# Altium footprint library 1049.PcbLib: 1 footprints
Each footprint in its own frame and in the unit in brackets; x right, y up, seen from the top. Pads: shape width x height; smd on the part's side, far side on the other; paste and mask are expansions set on the pad; w line width, h text height; cw(c..) or ccw(c..) is an arc to the next point about the centre after c.
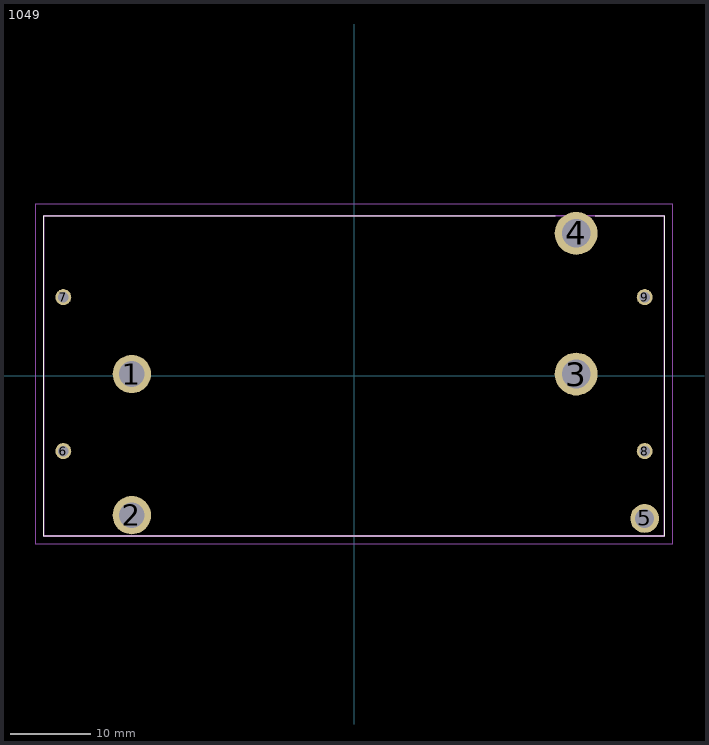
[diagram p0: the footprint, top view; thin cyan lines are the x and y axes]

## 1049 [mm]
pads (9):
  round 4.77 hole 3.18: 1(-27.6,0.24) 2(-27.6,-17.29)
  round 5.325 hole 3.55: 3(27.6,0.24) 4(27.6,17.71)
  round 3.57 hole 2.38: 5(36.11,-17.71)
  round 1.98 hole 1.32: 6(-36.11,-9.34) 7(-36.11,9.79) 8(36.11,-9.34) 9(36.11,9.79)
Top Overlay:
  lines w0.1: 25,19.89 -38.53,19.89 -38.53,-19.89 38.53,-19.89 38.53,19.89 38.5,19.89 30,19.89
Mechanical 15:
  lines w0.2: -38.53,-19.89 38.53,-19.89 38.53,19.89 -38.53,19.89 -38.53,-19.89
Mechanical 20:
  lines w0.1: -39.53,-20.89 39.53,-20.89 39.53,21.373 -39.53,21.373 -39.53,-20.89